# Altium footprint library IntergratedCircuits.PcbLib: 19 footprints (part 2 of 2)
Each footprint in its own frame and in the unit in brackets; x right, y up, seen from the top. Pads: shape width x height; smd on the part's side, far side on the other; paste and mask are expansions set on the pad; w line width, h text height; cw(c..) or ccw(c..) is an arc to the next point about the centre after c.
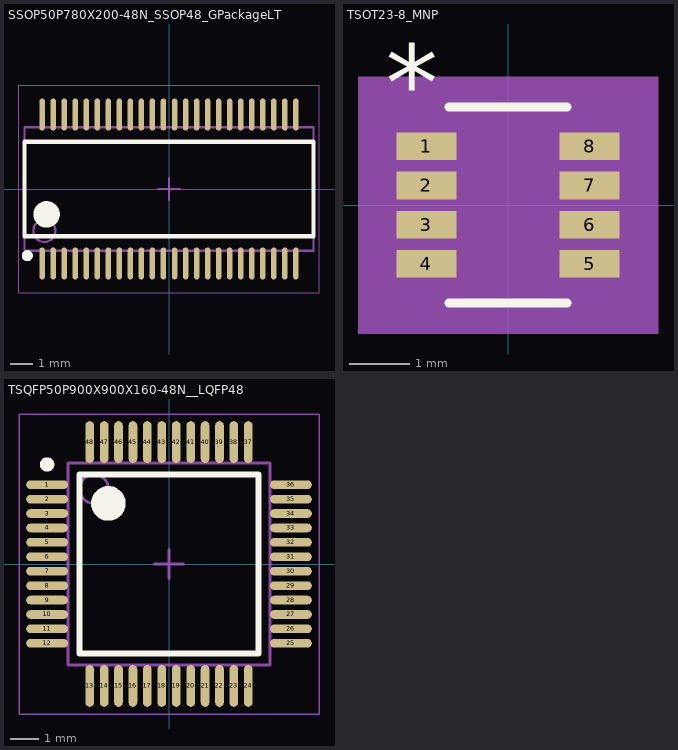
[diagram p1: the footprints below, top view; thin cyan lines are the x and y axes]

## SSOP50P780X200-48N_SSOP48_GPackageLT [mm] "SSOP, 48-Leads, Body 12.80x5.30mm, Pitch 0.50mm, IPC Medium Density"
height 2
pads (48):
  oval 0.25x1.45 smd mask+0.13: 1(-5.75,-3.375) 2(-5.25,-3.375) 3(-4.75,-3.375) 4(-4.25,-3.375) 5(-3.75,-3.375) 6(-3.25,-3.375) 7(-2.75,-3.375) 8(-2.25,-3.375) 9(-1.75,-3.375) 10(-1.25,-3.375) 11(-0.75,-3.375) 12(-0.25,-3.375) 13(0.25,-3.375) 14(0.75,-3.375) 15(1.25,-3.375) 16(1.75,-3.375) 17(2.25,-3.375) 18(2.75,-3.375) 19(3.25,-3.375) 20(3.75,-3.375) 21(4.25,-3.375) 22(4.75,-3.375) 23(5.25,-3.375) 24(5.75,-3.375) 25(5.75,3.375) 26(5.25,3.375) 27(4.75,3.375) 28(4.25,3.375) 29(3.75,3.375) 30(3.25,3.375) 31(2.75,3.375) 32(2.25,3.375) 33(1.75,3.375) 34(1.25,3.375) 35(0.75,3.375) 36(0.25,3.375) 37(-0.25,3.375) 38(-0.75,3.375) 39(-1.25,3.375) 40(-1.75,3.375) 41(-2.25,3.375) 42(-2.75,3.375) 43(-3.25,3.375) 44(-3.75,3.375) 45(-4.25,3.375) 46(-4.75,3.375) 47(-5.25,3.375) 48(-5.75,3.375)
Top Overlay:
  circle w0.6: c-5.55,-1.15 r0.3
  circle w0.25: c-6.425,-3.025 r0.125
  lines w0.2: -6.55,-2.15 -6.55,0 -6.55,2.15 6.55,2.15 6.55,0 6.55,-2.15 -6.55,-2.15
Mechanical 13:
  circle w0.1: c-5.65,-1.9 r0.5
  lines w0.1: -6.55,-2.8 -6.55,2.8 6.55,2.8 6.55,-2.8 -6.55,-2.8
Mechanical 15:
  lines w0.05: -6.8,-4.7 -6.8,4.7 6.8,4.7 6.8,-4.7 -6.8,-4.7
  lines w0.1: -0.5,0 0.5,0 ; 0,-0.5 0,0.5
3D body "TSSOP-48.stp": height 1.11, standoff 0.01, extent -6.25,-4.065 6.25,4.065

## TSOT23-8_MNP [mil]
pads (8):
  rect 39.5x18 smd paste+0 mask+0: 1(-53.25,38.39) 2(-53.25,12.8) 3(-53.25,-12.8) 4(-53.25,-38.39) 5(53.25,-38.39) 6(53.25,-12.8) 7(53.25,12.8) 8(53.25,38.39)
Top Overlay:
  lines w6: -38.5,-64 38.5,-64 ; -38.5,64 38.5,64
  text "*" at -80,55 h50
Mechanical 5:
  region: 98,-84 -98,-84 -98,84 98,84
Mechanical 13:
  lines w0: -12,59 ccw(c0,59) 12,59
  lines w1: -59,-46.39 -59,-30.39 -33.5,-30.39 -33.5,-46.39 -59,-46.39 ; -59,-20.8 -59,-4.8 -33.5,-4.8 -33.5,-20.8 -59,-20.8 ; -59,4.8 -59,20.8 -33.5,20.8 -33.5,4.8 -59,4.8 ; -59,30.39 -59,46.39 -33.5,46.39 -33.5,30.39 -59,30.39 ; -33.5,-59 33.5,-59 33.5,59 -33.5,59 -33.5,-59 ; 33.5,-46.39 33.5,-30.39 59,-30.39 59,-46.39 33.5,-46.39 ; 33.5,-20.8 33.5,-4.8 59,-4.8 59,-20.8 33.5,-20.8 ; 33.5,4.8 33.5,20.8 59,20.8 59,4.8 33.5,4.8 ; 33.5,30.39 33.5,46.39 59,46.39 59,30.39 33.5,30.39
  text "*" at -31,6 h50
Mechanical 15:
  region: -43.5,-57.39 -83,-57.39 -83,57.39 -43.5,57.39 -43.5,69 43.5,69 43.5,57.39 83,57.39 83,-57.39 43.5,-57.39 43.5,-69 -43.5,-69
  lines w6: -83,-57.39 -83,57.39 -43.5,57.39 -43.5,69 43.5,69 43.5,57.39 83,57.39 83,-57.39 43.5,-57.39 43.5,-69 -43.5,-69 -43.5,-57.39 -83,-57.39
3D body "TSOT23-8_MP2315S_MNP.step": height 39.09, standoff 0, extent -59.01,-59.01 59.02,59.02

## TSQFP50P900X900X160-48N__LQFP48 [mm] "TSQFP, 48-Leads, Body 7.00x7.00mm, Pitch 0.50mm, IPC Medium Density"
height 1.6
pads (48):
  oval 1.45x0.3 smd: 1(-4.225,2.75) 2(-4.225,2.25) 3(-4.225,1.75) 4(-4.225,1.25) 5(-4.225,0.75) 6(-4.225,0.25) 7(-4.225,-0.25) 8(-4.225,-0.75) 9(-4.225,-1.25) 10(-4.225,-1.75) 11(-4.225,-2.25) 12(-4.225,-2.75) 25(4.225,-2.75) 26(4.225,-2.25) 27(4.225,-1.75) 28(4.225,-1.25) 29(4.225,-0.75) 30(4.225,-0.25) 31(4.225,0.25) 32(4.225,0.75) 33(4.225,1.25) 34(4.225,1.75) 35(4.225,2.25) 36(4.225,2.75)
  oval 0.3x1.45 smd: 13(-2.75,-4.225) 14(-2.25,-4.225) 15(-1.75,-4.225) 16(-1.25,-4.225) 17(-0.75,-4.225) 18(-0.25,-4.225) 19(0.25,-4.225) 20(0.75,-4.225) 21(1.25,-4.225) 22(1.75,-4.225) 23(2.25,-4.225) 24(2.75,-4.225) 37(2.75,4.225) 38(2.25,4.225) 39(1.75,4.225) 40(1.25,4.225) 41(0.75,4.225) 42(0.25,4.225) 43(-0.25,4.225) 44(-0.75,4.225) 45(-1.25,4.225) 46(-1.75,4.225) 47(-2.25,4.225) 48(-2.75,4.225)
Top Overlay:
  circle w0.6: c-2.1,2.1 r0.3
  circle w0.25: c-4.225,3.45 r0.125
  lines w0.2: -3.1,-3.1 3.1,-3.1 3.1,3.1 -3.1,3.1 -3.1,-3.1
Mechanical 13:
  circle w0.1: c-2.6,2.6 r0.5
  lines w0.1: -3.5,-3.5 3.5,-3.5 3.5,3.5 -3.5,3.5 -3.5,-3.5
Mechanical 15:
  lines w0.05: -5.2,-5.2 5.2,-5.2 5.2,5.2 -5.2,5.2 -5.2,-5.2
  lines w0.1: -0.5,0 0.5,0 ; 0,-0.5 0,0.5
3D body "LQFP48.STEP": height 1.5, standoff 0, extent -4.513,-4.513 4.513,4.513